# Altium footprint library Transformer_EI.PcbLib: 1 footprints
Each footprint in its own frame and in the unit in brackets; x right, y up, seen from the top. Pads: shape width x height; smd on the part's side, far side on the other; paste and mask are expansions set on the pad; w line width, h text height; cw(c..) or ccw(c..) is an arc to the next point about the centre after c.
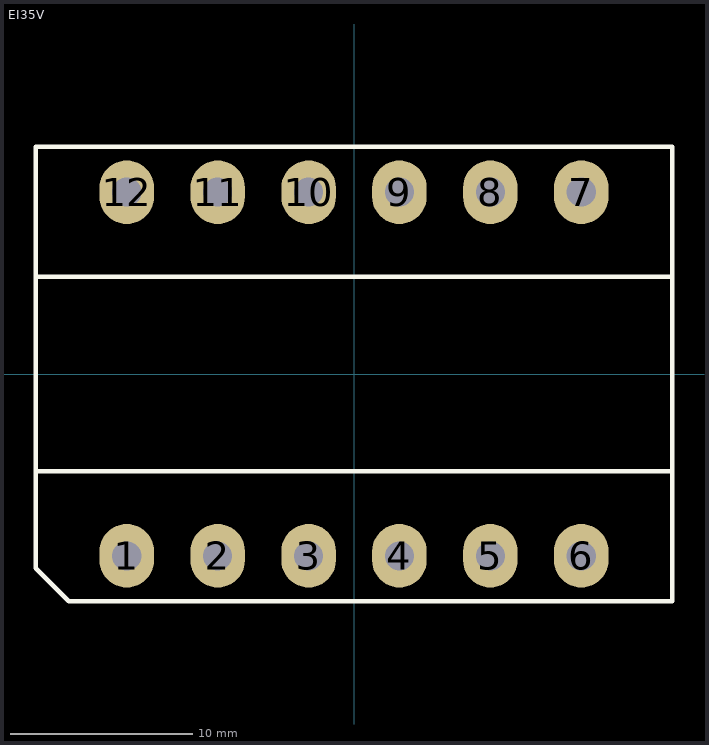
[diagram p0: the footprint, top view; thin cyan lines are the x and y axes]

## EI35V [mm]
pads (12):
  oval 3x3.5 hole 1.6: 1(-12.5,-10) 2(-7.5,-10) 3(-2.5,-10) 4(2.5,-10) 5(7.5,-10) 6(12.5,-10) 7(12.5,10) 8(7.5,10) 9(2.5,10) 10(-2.5,10) 11(-7.5,10) 12(-12.5,10)
Top Overlay:
  lines w0.254: -17.5,-5.35 0.04,-5.35 ; -17.5,5.35 0.04,5.35 ; -0.04,-5.35 17.5,-5.35 ; -0.04,5.35 17.5,5.35 ; -17.5,-10.694 -17.5,0 -17.5,12.5 0,12.5 17.5,12.5 17.5,0 17.5,-12.5 0,-12.5 -15.694,-12.5 -17.5,-10.694
3D body "EI35VTransformer.STEP": height 30.07, standoff -2.5, extent -17.55,-12.6 17.55,12.6